# EAGLE library part BQ34Z100-G1 (library WCSMain)
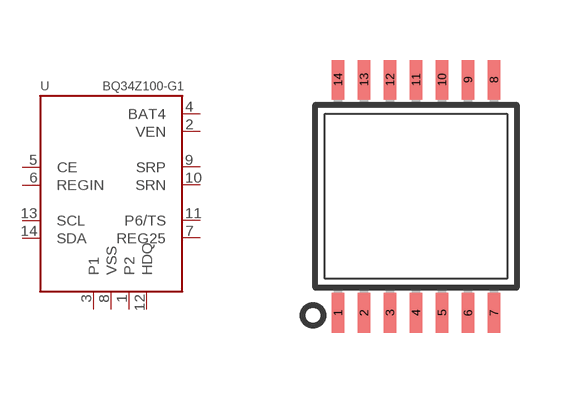
[diagram p11: symbol with the pads of TSSOP14; footprint TSSOP14]

Designator prefix -

## BQ34Z100-G1  [TSSOP14]
1  P2  out
2  VEN  out
3  P1  out
4  BAT4  in
5  CE  in
6  REGIN  pwr
7  REG25  pwr
8  VSS  pwr
9  SRP  in
10  SRN  in
11  P6/TS  in
12  HDQ
13  SCL  in
14  SDA

## Footprint TSSOP14 (pad centres in mm)
Thin Shrink Small Outline Plastic 14 MAX3223-MAX3243.pdf
smd 0.305 x 0.991: 1 -1.95,-2.918; 2 -1.3,-2.918; 3 -0.65,-2.918; 4 0,-2.918; 5 0.65,-2.918; 6 1.3,-2.918; 7 1.95,-2.918; 8 1.95,2.918; 9 1.3,2.918; 10 0.65,2.918; 11 0,2.918; 12 -0.65,2.918; 13 -1.3,2.918; 14 -1.95,2.918